# EAGLE library part JMP/9P/SIP (library audioint)
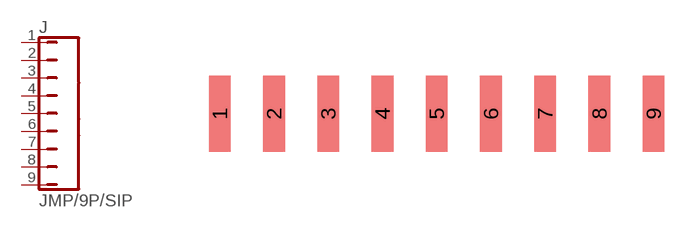
[diagram p35: symbol with the pads of 9SIP-SMT; footprint 9SIP-SMT]

Designator prefix J

## JMP/9P/SIP  [9SIP-SMT]
1  1  pas
2  2  pas
3  3  pas
4  4  pas
5  5  pas
6  6  pas
7  7  pas
8  8  pas
9  9  pas

## Footprint 9SIP-SMT (pad centres in mm)
smd 1.016 x 3.556: 1 -10.16,0; 2 -7.62,0; 3 -5.08,0; 4 -2.54,0; 5 0,0; 6 2.54,0; 7 5.08,0; 8 7.62,0; 9 10.16,0